# EAGLE library part LM358DR (library LM358DR)
Check availability <https://pricing.snapeda.com/parts/LM358DR/Texas%20Instruments/view-part?ref=eda>
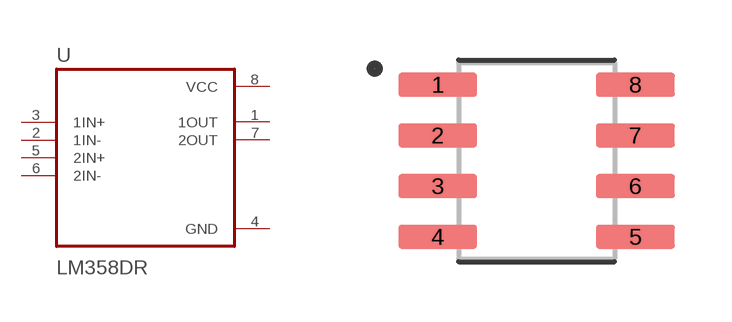
[diagram p0: symbol with the pads of SOIC127P599X175-8N; footprint SOIC127P599X175-8N]

Designator prefix U

## LM358DR (Availability: In Stock; Check_prices: https://www.snapeda.com/parts/LM358DR/Texas+Instruments/view-part/?ref=eda; Description: Dual, 30-V, 700-kHz operational amplifier; MF: Texas Instruments; MP: LM358DR; Package: SOIC-8 Texas Instruments; Price: None; Purchase-URL: https://www.snapeda.com/api/url_track_click_mouser/?unipart_id=6639&manufacturer=Texas Instruments&part_name=LM358DR&search_term=lm358dr; SnapEDA_Link: https://www.snapeda.com/parts/LM358DR/Texas+Instruments/view-part/?ref=snap)  [SOIC127P599X175-8N]
1  1OUT  out
2  1IN-  in
3  1IN+  in
4  GND  pwr
5  2IN+  in
6  2IN-  in
7  2OUT  out
8  VCC  pwr

## Footprint SOIC127P599X175-8N (pad centres in mm)
smd 1.97 x 0.6: 1 -2.47,1.905; 2 -2.47,0.635; 3 -2.47,-0.635; 4 -2.47,-1.905; 5 2.47,-1.905; 6 2.47,-0.635; 7 2.47,0.635; 8 2.47,1.905